# Altium schematic symbol library IC_ROHM_BU4230FVE-TR.SchLib: 1 symbol
Pins are listed as number, name and electrical type; pins without a type are passive.

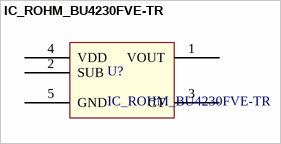
[diagram p0: symbol IC_ROHM_BU4230FVE-TR]

## IC_ROHM_BU4230FVE-TR
designator U?
Supervisory Circuits LOW VOLT DETECT VOL; Manufacturer 1: ROHM; Supplier 1: Mouser; Supplier Part Number 1: 755-BU4230FVE-TR; Manufacturer Part Number 1: BU4230FVE-TR
footprint IC_ROHM_BU4230FVE-TR
pins: 1 VOUT, 2 SUB, 3 CT, 4 VDD, 5 GND